# Altium schematic symbol library SMH-105-02-T-D-TR.SchLib: 1 symbol
Pins are listed as number, name and electrical type; pins without a type are passive.

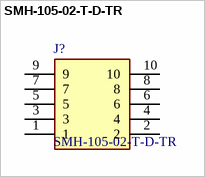
[diagram p0: symbol SMH-105-02-T-D-TR]

## SMH-105-02-T-D-TR
designator J?
Headers & Wire Housings .100" Horizontal Surface Mount Socket Strip; Manufacturer_Name: SAMTEC; Geometry.Height: 4.95mm; Mouser Part Number: 200-SMH10502TDTR; Mouser Price/Stock: https://www.mouser.co.uk/ProductDetail/Samtec/SMH-105-02-T-D-TR?qs=Cqqh%252BS766wkiSGNTyR683A%3D%3D; Manufacturer_Part_Number: SMH-105-02-T-D-TR; Datasheet Link: *
footprint SMH10502TDTR
pins: 1, 2, 3, 4, 5, 6, 7, 8, 9, 10